# Altium integrated library WE-TFC Common Mode Power Line Choke.IntLib: 7 symbols
Pins are listed as number, name and electrical type; pins without a type are passive.

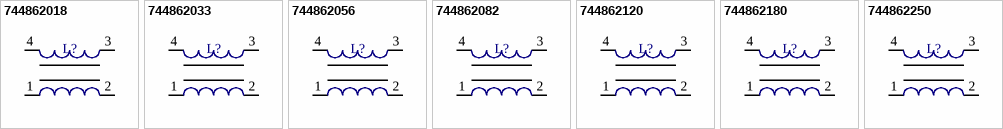
[diagram p0: symbols 744862018 to 744862250]

## 744862018
designator L?
PTH-Common Mode Power Line Choke WE-TFC, L=1.8 mH; PartNumber: 744862018; Inductance: 1.80 mH; PackageReference: WE-TFC; ComponentLink1Description: Manufacturer URL; ComponentLink1URL: http://www.we-online.com; ComponentLink2Description: Datasheet; ComponentLink2URL: http://www.we-online.de/katalog/media/pdf/744862018.pdf
footprint WE-TFC (PTH Inductor, 4-Leads, Body 17x11mm)
pins: 1, 2, 3, 4

## 744862033
designator L?
PTH-Common Mode Power Line Choke WE-TFC, L=3.30 mH; PartNumber: 744862033; Inductance: 3.30 mH; PackageReference: WE-TFC; ComponentLink1Description: Manufacturer URL; ComponentLink1URL: http://www.we-online.com; ComponentLink2Description: Datasheet; ComponentLink2URL: http://www.we-online.de/katalog/media/pdf/744862033.pdf
footprint WE-TFC (PTH Inductor, 4-Leads, Body 17x11mm)
pins: 1, 2, 3, 4

## 744862056
designator L?
PTH-Common Mode Power Line Choke WE-TFC, L=5.60 mH; PartNumber: 744862056; Inductance: 5.60 mH; PackageReference: WE-TFC; ComponentLink1Description: Manufacturer URL; ComponentLink1URL: http://www.we-online.com; ComponentLink2Description: Datasheet; ComponentLink2URL: http://www.we-online.de/katalog/media/pdf/744862056.pdf
footprint WE-TFC (PTH Inductor, 4-Leads, Body 17x11mm)
pins: 1, 2, 3, 4

## 744862082
designator L?
PTH-Common Mode Power Line Choke WE-TFC, L=8.20 mH; PartNumber: 744862082; Inductance: 8.20 mH; PackageReference: WE-TFC; ComponentLink1Description: Manufacturer URL; ComponentLink1URL: http://www.we-online.com; ComponentLink2Description: Datasheet; ComponentLink2URL: http://www.we-online.de/katalog/media/pdf/744862082.pdf
footprint WE-TFC (PTH Inductor, 4-Leads, Body 17x11mm)
pins: 1, 2, 3, 4

## 744862120
designator L?
PTH-Common Mode Power Line Choke WE-TFC, L=12 mH; PartNumber: 744862120; Inductance: 12 mH; PackageReference: WE-TFC; ComponentLink1Description: Manufacturer URL; ComponentLink1URL: http://www.we-online.com; ComponentLink2Description: Datasheet; ComponentLink2URL: http://www.we-online.de/katalog/media/pdf/744862120.pdf
footprint WE-TFC (PTH Inductor, 4-Leads, Body 17x11mm)
pins: 1, 2, 3, 4

## 744862180
designator L?
PTH-Common Mode Power Line Choke WE-TFC, L=18 mH; PartNumber: 744862180; Inductance: 18 mH; PackageReference: WE-TFC; ComponentLink1Description: Manufacturer URL; ComponentLink1URL: http://www.we-online.com; ComponentLink2Description: Datasheet; ComponentLink2URL: http://www.we-online.de/katalog/media/pdf/744862180.pdf
footprint WE-TFC (PTH Inductor, 4-Leads, Body 17x11mm)
pins: 1, 2, 3, 4

## 744862250
designator L?
PTH-Common Mode Power Line Choke WE-TFC, L=25 mH; PartNumber: 744862250; Inductance: 25 mH; PackageReference: WE-TFC; ComponentLink1Description: Manufacturer URL; ComponentLink1URL: http://www.we-online.com; ComponentLink2Description: Datasheet; ComponentLink2URL: http://www.we-online.de/katalog/media/pdf/744862250.pdf
footprint WE-TFC (PTH Inductor, 4-Leads, Body 17x11mm)
pins: 1, 2, 3, 4